# EAGLE library part CH340G (library ch340g)
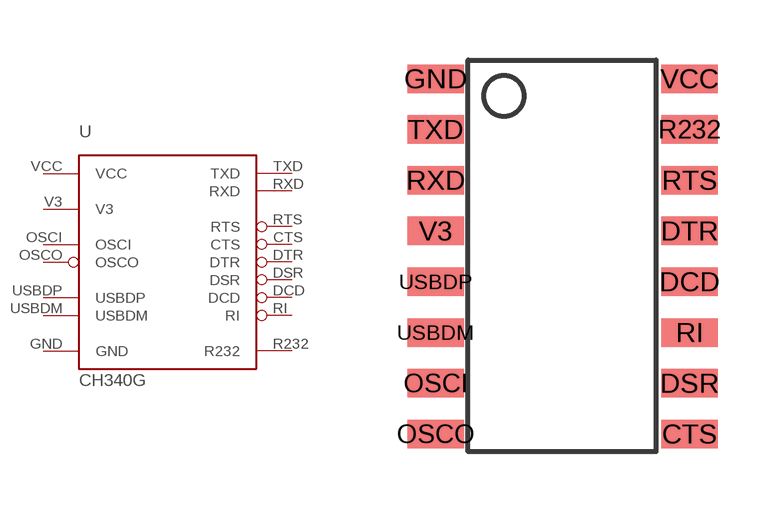
[diagram p0: symbol with the pads of SOP16; footprint SOP16]

Designator prefix -

## CH340G  [SOP16]
CTS  CTS
DCD  DCD
DSR  DSR
DTR  DTR
GND  GND
OSCI  OSCI
OSCO  OSCO
R232  R232
RI  RI
RTS  RTS
RXD  RXD
TXD  TXD
USBDM  USBDM
USBDP  USBDP
V3  V3
VCC  VCC

## Footprint SOP16 (pad centres in mm)
smd 1.422 x 0.711: CTS 3.175,-4.445; DCD 3.175,-0.635; DSR 3.175,-3.175; DTR 3.175,0.635; GND -3.175,4.445; OSCI -3.175,-3.175; OSCO -3.175,-4.445; R232 3.175,3.175; RI 3.175,-1.905; RTS 3.175,1.905; RXD -3.175,1.905; TXD -3.175,3.175; USBDM -3.175,-1.905; USBDP -3.175,-0.635; V3 -3.175,0.635; VCC 3.175,4.445